# Altium schematic symbol library Modulo-1B-TY.SchLib: 37 symbols (part 1 of 2)
Pins are listed as number, name and electrical type; pins without a type are passive.

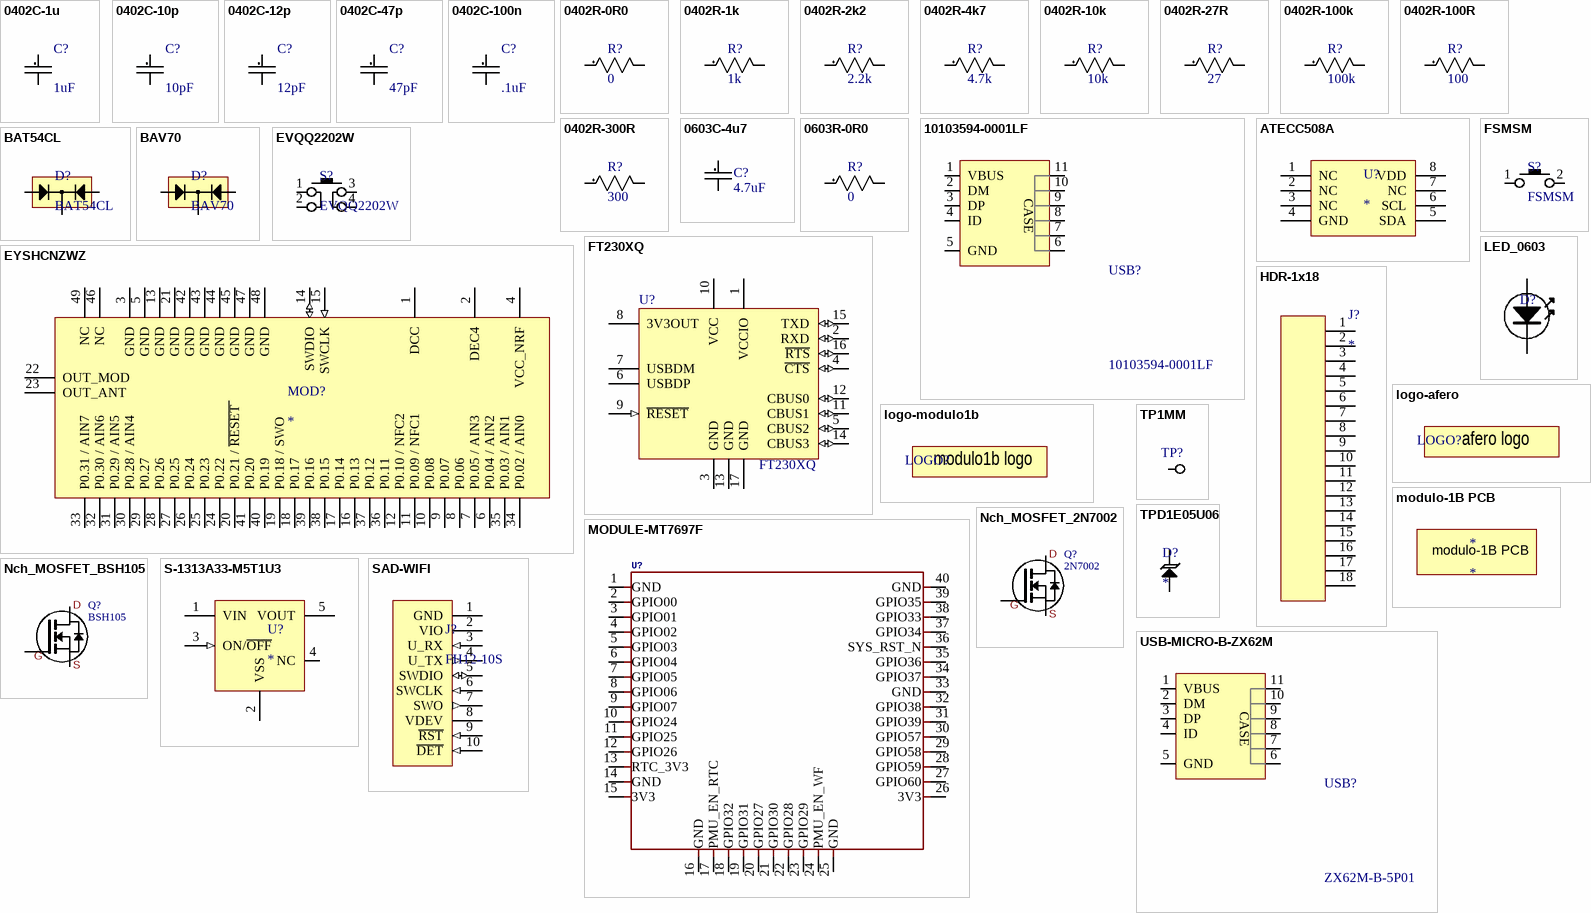
[diagram p0: symbols 0402C-1u to USB-MICRO-B-ZX62M]

## 0402C-1u
designator C?, comment 1uF
Capacitor, MLCC; Manufacturer: Murata Electronics; Manufacturer Part Number: GRM155R60J105ME19J; Tolerance: 20 %; Type: Chip Monolithic Ceramic Capacitor; Voltage Rating DC: 6.3 VDC; Capacitance - nF: 1000 nF; Dielectric: X5R; Value: 1u; item_number: E-CAP-00020-00; Supplier 1: Mouser; RoHS: RoHS Compliant; Category: Multilayer Ceramic Capacitors MLCC - SMD/SMT; Stock 1: 17644; Pricing 1: 1=0.100, 10=0.080, 100=0.040, 500=0.030, 1000=0.020, 50000=0.020 (USD); Capacitance: 1uF; Height: 0.5 mm; Length: 1 mm; Package / Case: 0402 (1005 metric); Packaging: Cut Tape; Product: General Type MLCCs; Series: GRM; Termination Style: SMD/SMT; Width: 0.5 mm; Brand: Murata Electronics; Case Code - in: 0402; Case Code - mm: 1005; Maximum Operating Temperature: + 85 C; Minimum Operating Temperature: - 55 C; Standard Pack Qty: 50000; RoHS - Mouser: Y; Minimum Order Quantity: 1; Reeling: True; ComponentLink1URL: http://www.mouser.com/ds/2/281/c02e-2905.pdf; ComponentLink1Description: http://www.mouser.com/ds/2/281/c02e-2905.pdf; Supplier Part Number 1: 81-GRM155R60J105ME9J
footprint 0402C-GENERIC
pins: 1, 2

## 0402C-10p
designator C?, comment 10pF
Capacitor, C0G; Manufacturer: Murata; Manufacturer Part Number: GRM1555C1H100FA01D; Tolerance: 1%; Voltage Rating: 50V; item_number: E-CAP-00028-00; Supplier 1: Digi-Key; Supplier Part Number 1: 490-6186-1-ND; Stock 1: 100000; Pricing 1: 1=0.1, 10=0.057, 100=0.0254, 500=0.0181, 1000=0.0142, 2500=0.0129, 5000=0.0119 (USD); Mount: Surface Mount; Case/Package: 0402; Case Code (Metric): 1005; Case Code (Imperial): 0402; Min Operating Temperature: -55°C; Max Operating Temperature: 125°C; Capacitance: 10pF; Voltage Rating (DC): 50V; Packaging: Tape and Reel; Package Quantity: 10000; Dielectric: C0G; Termination: SMD/SMT; Length: 1mm; Height: 0.5mm; Width: 0.02inch; Thickness: 0.022inch; Depth: 0.5mm; Radiation Hardening: No; REACH SVHC: No SVHC; Lead Free: Lead Free
footprint 0402C-GENERIC
pins: 1, 2

## 0402C-12p
designator C?, comment 12pF
Capacitor, C0G; Manufacturer: Murata; Manufacturer Part Number: GJM1555C1H120FB01D; Tolerance: 1%; Voltage Rating: 50V; item_number: E-CAP-00106-00; Mount: Surface Mount; Case/Package: 0402; Case Code (Metric): 1005; Case Code (Imperial): 0402; Min Operating Temperature: -55°C; Max Operating Temperature: 125°C; Capacitance: 12pF; Voltage Rating (DC): 50V; Packaging: Tape and Reel; Package Quantity: 10000; Dielectric: C0G; Termination: SMD/SMT; Length: 1mm; Height: 0.5mm; Width: 0.02inch; Thickness: 0.022inch; Depth: 0.5mm; Radiation Hardening: No; REACH SVHC: No SVHC; Lead Free: Lead Free; Supplier 1: Digi-Key; Supplier Part Number 1: 490-11190-1-ND
footprint 0402C-GENERIC
pins: 1, 2

## 0402C-47p
designator C?, comment 47pF
Capacitor, C0G; Manufacturer: Murata; Manufacturer Part Number: GRM1555C1H470JZ01D; Dielectric Material: Ceramic; Tolerance: 5%; Voltage Rating: 50V; Temperature Coefficient: 30ppm/°C; Insulation Resistance: 10GR; item_number: E-CAP-00019-00; Supplier 1: Digi-Key; Supplier Part Number 1: 490-1287-2-ND; Stock 1: 0; Mount: Surface Mount; Case/Package: 0402; Number of Pins: 2; Case Code (Metric): 1005; Case Code (Imperial): 0402; Min Operating Temperature: -55°C; Max Operating Temperature: 125°C; Packaging: Tape and Reel; Capacitance: 47pF; Dielectric: C0G; Voltage Rating (DC): 50V; Package Quantity: 1; Termination: SMD/SMT; Voltage: 50V; Length: 1mm; Height: 0.5mm; Width: 0.5mm; Depth: 0.5mm; Thickness: 0.022inch; Radiation Hardening: No; REACH SVHC: No SVHC; Lead Free: Lead Free; ComponentLink1URL: https://datasheet.ciiva.com/129/product-129747.pdf; ComponentLink1Description: https://datasheet.ciiva.com/129/product-129747.pdf; ComponentLink2URL: https://datasheet.ciiva.com/11787/0900766b807a1cab-11787251.pdf; ComponentLink2Description: https://datasheet.ciiva.com/11787/0900766b807a1cab-11787251.pdf; ComponentLink3URL: https://datasheet.ciiva.com/129/partnumbering-e-01-129748.pdf; ComponentLink3Description: https://datasheet.ciiva.com/129/partnumbering-e-01-129748.pdf; ComponentLink4URL: https://datasheet.ciiva.com/129/partnumbering-e-01-129749.pdf; ComponentLink4Description: https://datasheet.ciiva.com/129/partnumbering-e-01-129749.pdf; ComponentLink5URL: https://datasheet.ciiva.com/16396/l0005e-16396809.pdf; ComponentLink5Description: https://datasheet.ciiva.com/16396/l0005e-16396809.pdf; ComponentLink6URL: https://datasheet.ciiva.com/18100/getdatasheetpartid-32342-18100875.pdf; ComponentLink6Description: https://datasheet.ciiva.com/18100/getdatasheetpartid-32342-18100875.pdf
footprint 0402C-GENERIC
pins: 1, 2

## 0402C-100n
designator C?, comment .1uF
Capacitor, MLCC; Manufacturer: Murata; Manufacturer Part Number: GRM155R61H104KE19D; Tolerance: 10%; Voltage Rating: 50V; Dielectric: X5R; item_number: E-CAP-00004-00; Supplier 1: Mouser; Stock 1: 727844; Pricing 1: 1=0.1, 10=0.068, 50=0.068, 100=0.03, 1000=0.017, 10000=0.011 (USD); Mount: Surface Mount; Case/Package: 0402; Case Code (Metric): 1005; Case Code (Imperial): 0402; Min Operating Temperature: -55°C; Max Operating Temperature: 85°C; Packaging: Tape and Reel; Capacitance: .1uF; Voltage: 50V; Voltage Rating (DC): 50V; Length: 1mm; Height: 0.5mm; Width: 0.02inch; Thickness: 0.022inch; Depth: 0.5mm; REACH SVHC: No SVHC; Lead Free: Lead Free; ComponentLink1URL: https://datasheet.ciiva.com/22698/1666664-22698413.pdf; ComponentLink1Description: https://datasheet.ciiva.com/22698/1666664-22698413.pdf; ComponentLink2URL: https://datasheet.ciiva.com/7719/1666664-7719007.pdf; ComponentLink2Description: https://datasheet.ciiva.com/7719/1666664-7719007.pdf; Supplier Part Number 1: 81-GRM155R61H104KE9D
footprint 0402C-GENERIC
pins: 1, 2

## 0402R-0R0
designator R?, comment 0
Resistor 0R; Manufacturer: Yageo; Manufacturer Part Number: RC0402FR-070RL; Resistance: 0mR; Tolerance: 1%; Power Rating: 62.5mW; Voltage Rating: 50V; Temperature Coefficient: 200ppm/°C; Supplier 1: Mouser; Supplier Part Number 1: 603-RC0402FR-070RL; Stock 1: 240535; Pricing 1: 1=0.1, 10=0.01, 50=0.01, 100=0.003, 1000=0.002, 10000=0.002 (USD); Case/Package: 0402; Contact Plating: Tin,Matte; Case Code (Imperial): 0402; Case Code (Metric): 1005; Min Operating Temperature: -55°C; Max Operating Temperature: 155°C; Composition: Thick Film; Packaging: Tape and Reel; Termination: SMD/SMT; Length: 1mm; Height: 0.35mm; Width: 0.5mm; Radiation Hardening: No; Lead Free: Lead Free; ComponentLink1URL: https://datasheet.ciiva.com/8896/pyu-rc0402-51-rohs-l-6-8896149.pdf; ComponentLink1Description: https://datasheet.ciiva.com/8896/pyu-rc0402-51-rohs-l-6-8896149.pdf; ComponentLink2URL: https://datasheet.ciiva.com/16790/pyu-rc0402-51-rohs-l-6-r-16790444.pdf; ComponentLink2Description: https://datasheet.ciiva.com/16790/pyu-rc0402-51-rohs-l-6-r-16790444.pdf; ComponentLink3URL: https://datasheet.ciiva.com/28419/pyu-rc0402-51-rohs-l-6-28419661.pdf; ComponentLink3Description: https://datasheet.ciiva.com/28419/pyu-rc0402-51-rohs-l-6-28419661.pdf; ComponentLink4URL: https://datasheet.ciiva.com/16869/pyu-rc0402-51-rohs-l-6-16869518.pdf; ComponentLink4Description: https://datasheet.ciiva.com/16869/pyu-rc0402-51-rohs-l-6-16869518.pdf; Value: 0; item_number: =item_name
footprint 0402R-GENERIC (Chip Resistor, 2-Leads, Body 1.00x0.50mm, IPC Medium Density)
pins: 1, 2

## 0402R-1k
designator R?, comment 1k
Resistor 1k; Manufacturer: Yageo; Manufacturer Part Number: RT0402-FRE071KL; Tolerance: 1%; Temperature Coefficient: 50ppm/°C; Power Rating: 62.5mW; Voltage Rating: 50V; Max Power Dissipation: 63mW; item_number: E-RES-00002-00; Supplier 1: Digi-Key; Supplier Part Number 1: YAG1234CT-ND; Stock 1: 16655; Pricing 1: 1=0.1, 10=0.076, 100=0.029, 1000=0.0128, 2500=0.011, 5000=0.0099 (USD); Case/Package: 0402; Case Code (Metric): 1005; Case Code (Imperial): 0402; Contact Plating: Tin,Lead,Matte; Min Operating Temperature: -55°C; Max Operating Temperature: 125°C; Packaging: Tape and Reel; Resistance: 1k; Composition: Thin Film; Termination: SMD/SMT; Number of Terminations: 2; Package Quantity: 10000; Military Standard: Not; Voltage Rating (DC): 50V; Length: 1mm; Height: 0.014inch; Width: 0.02inch; Depth: 0.5mm; Radiation Hardening: No; Lead Free: Lead Free; ComponentLink1URL: https://datasheet.ciiva.com/12834/pyu-rt-1-to-0-05-rohs-l-4-12834181.pdf; ComponentLink1Description: https://datasheet.ciiva.com/12834/pyu-rt-1-to-0-05-rohs-l-4-12834181.pdf; ComponentLink2URL: https://datasheet.ciiva.com/25647/pyu-rt-1-to-0-05-rohs-l-4-25647306.pdf; ComponentLink2Description: https://datasheet.ciiva.com/25647/pyu-rt-1-to-0-05-rohs-l-4-25647306.pdf; ComponentLink3URL: https://datasheet.ciiva.com/8896/pyu-rt-1-to-0-05-rohs-l-4-8896188.pdf; ComponentLink3Description: https://datasheet.ciiva.com/8896/pyu-rt-1-to-0-05-rohs-l-4-8896188.pdf
footprint 0402R-GENERIC (Chip Resistor, 2-Leads, Body 1.00x0.50mm, IPC Medium Density)
pins: 1, 2

## 0402R-2k2
designator R?, comment 2.2k
Resistor 2k2; Manufacturer: Panasonic; Manufacturer Part Number: ERJ-2GEJ222X; Power Rating: 100mW; Tolerance: 5%; Voltage Rating: 50V; Temperature Coefficient: 200ppm/°C; Supplier 1: Digi-Key; Supplier Part Number 1: P2.2KJCT-ND; Stock 1: 1077448; Pricing 1: 1=0.1, 10=0.038, 100=0.0154, 1000=0.0069, 2500=0.006, 5000=0.005 (USD); Mount: Surface Mount; Case/Package: 0402; Weight: 2.8E-05oz; Case Code (Metric): 1005; Case Code (Imperial): 0402; Contact Plating: Tin; Min Operating Temperature: -55°C; Max Operating Temperature: 155°C; Packaging: Tape and Reel; Resistance: 2.2k; Composition: Thick Film; Military Standard: Not; Package Quantity: 1; Number of Terminations: 2; Termination: SMD/SMT; Max Power Dissipation: 100mW; Voltage Rating (DC): 50V; Features: Automotive AEC-Q200; Length: 1mm; Height: 0.35mm; Width: 0.02inch; Depth: 0.5mm; Radiation Hardening: No; REACH SVHC: No SVHC; Lead Free: Lead Free; ComponentLink1URL: https://datasheet.ciiva.com/16371/aoa0000ce1-16371493.pdf; ComponentLink1Description: https://datasheet.ciiva.com/16371/aoa0000ce1-16371493.pdf; ComponentLink2URL: https://datasheet.ciiva.com/9197/aoa0000ce1-9197303.pdf; ComponentLink2Description: https://datasheet.ciiva.com/9197/aoa0000ce1-9197303.pdf; ComponentLink3URL: https://datasheet.ciiva.com/11821/0900766b80f806dd-11821272.pdf; ComponentLink3Description: https://datasheet.ciiva.com/11821/0900766b80f806dd-11821272.pdf; ComponentLink4URL: https://datasheet.ciiva.com/28584/1678796-28584088.pdf; ComponentLink4Description: https://datasheet.ciiva.com/28584/1678796-28584088.pdf; ComponentLink5URL: https://datasheet.ciiva.com/17214/aoa0000ce1-17214249.pdf; ComponentLink5Description: https://datasheet.ciiva.com/17214/aoa0000ce1-17214249.pdf; ComponentLink6URL: https://datasheet.ciiva.com/22758/1500035-22758201.pdf; ComponentLink6Description: https://datasheet.ciiva.com/22758/1500035-22758201.pdf; ComponentLink7URL: https://datasheet.ciiva.com/30087/4aoa0000ce1-30087966.pdf; ComponentLink7Description: https://datasheet.ciiva.com/30087/4aoa0000ce1-30087966.pdf; ComponentLink8URL: https://datasheet.ciiva.com/46389/1500035-46389646.pdf; ComponentLink8Description: https://datasheet.ciiva.com/46389/1500035-46389646.pdf; ComponentLink9URL: https://datasheet.ciiva.com/43460/1500035-43460383.pdf; ComponentLink9Description: https://datasheet.ciiva.com/43460/1500035-43460383.pdf; ComponentLink10URL: https://datasheet.ciiva.com/46380/1500035-46380415.pdf; ComponentLink10Description: https://datasheet.ciiva.com/46380/1500035-46380415.pdf; item_number: =item_name
footprint 0402R-GENERIC (Chip Resistor, 2-Leads, Body 1.00x0.50mm, IPC Medium Density)
pins: 1, 2

## 0402R-4k7
designator R?, comment 4.7k
Resistor 4k7; Manufacturer: Panasonic; Manufacturer Part Number: ERJ-2GEJ472X; Tolerance: 5%; Voltage Rating: 50V; Temperature Coefficient: 200ppm/°C; Power Rating: 100mW; item_number: E-RES-00039-00; Supplier 1: Digi-Key; Supplier Part Number 1: P4.7KJCT-ND; Stock 1: 10404054; Pricing 1: 1=0.1, 10=0.038, 100=0.0154, 1000=0.0069, 2500=0.006, 5000=0.005 (USD); Mount: Surface Mount; Case/Package: 0402; Case Code (Imperial): 0402; Case Code (Metric): 1005; Contact Plating: Tin; Min Operating Temperature: -55°C; Max Operating Temperature: 155°C; Resistance: 4.7k; Packaging: Cut Tape; Termination: SMD/SMT; Military Standard: Not; Package Quantity: 1; Composition: Thick Film; Number of Terminations: 2; Max Power Dissipation: 100mW; Voltage Rating (DC): 50V; Features: Automotive AEC-Q200; Length: 1mm; Height: 0.35mm; Width: 0.5mm; Depth: 0.5mm; Radiation Hardening: No; REACH SVHC: No SVHC; Lead Free: Lead Free; ComponentLink1URL: https://datasheet.ciiva.com/11821/0900766b80f806dd-11821328.pdf; ComponentLink1Description: https://datasheet.ciiva.com/11821/0900766b80f806dd-11821328.pdf; ComponentLink2URL: https://datasheet.ciiva.com/16758/70260739-16758341.pdf; ComponentLink2Description: https://datasheet.ciiva.com/16758/70260739-16758341.pdf; ComponentLink3URL: https://datasheet.ciiva.com/16770/70260739-16770309.pdf; ComponentLink3Description: https://datasheet.ciiva.com/16770/70260739-16770309.pdf; ComponentLink4URL: https://datasheet.ciiva.com/28514/1678796-28514168.pdf; ComponentLink4Description: https://datasheet.ciiva.com/28514/1678796-28514168.pdf; ComponentLink5URL: https://datasheet.ciiva.com/17213/aoa0000ce1-17213178.pdf; ComponentLink5Description: https://datasheet.ciiva.com/17213/aoa0000ce1-17213178.pdf; ComponentLink6URL: https://datasheet.ciiva.com/16523/aoa0000ce1-16523499.pdf; ComponentLink6Description: https://datasheet.ciiva.com/16523/aoa0000ce1-16523499.pdf; ComponentLink7URL: https://datasheet.ciiva.com/46377/1678796-46377565.pdf; ComponentLink7Description: https://datasheet.ciiva.com/46377/1678796-46377565.pdf
footprint 0402R-GENERIC (Chip Resistor, 2-Leads, Body 1.00x0.50mm, IPC Medium Density)
pins: 1, 2

## 0402R-10k
designator R?, comment 10k
Resistor 10k; Manufacturer: Vishay Dale; Manufacturer Part Number: CRCW040210K0JNED; Tolerance: 5%; Power Rating: 63mW; Voltage Rating: 50V; Temperature Coefficient: 200ppm/°C; item_number: E-RES-00001-00; Supplier 1: Digi-Key; Supplier Part Number 1: 541-10KJCT-ND; Stock 1: 0; Pricing 1: 1=0.1, 10=0.031, 100=0.0125, 1000=0.0056, 2500=0.0049, 5000=0.004 (USD); Mount: Surface Mount; Case/Package: 0402; Weight: 2.3E-05oz; Case Code (Imperial): 0402; Case Code (Metric): 1005; Contact Plating: Tin; Min Operating Temperature: -55°C; Max Operating Temperature: 155°C; Resistance: 10k; Packaging: Tape and Reel; Termination: SMD/SMT; Package Quantity: 1; Composition: Thick Film; Military Standard: Not; Number of Terminations: 2; Max Power Dissipation: 63mW; Features: Automotive AEC-Q200; Length: 1mm; Height: 0.016inch; Depth: 0.5mm; Width: 0.5mm; Radiation Hardening: No; REACH SVHC: Unknown; ComponentLink1URL: https://datasheet.ciiva.com/2461/dcrcwe3-2461974.pdf; ComponentLink1Description: https://datasheet.ciiva.com/2461/dcrcwe3-2461974.pdf; ComponentLink2URL: https://datasheet.ciiva.com/2461/dcrcwe3-2461975.pdf; ComponentLink2Description: https://datasheet.ciiva.com/2461/dcrcwe3-2461975.pdf; ComponentLink3URL: https://datasheet.ciiva.com/2461/dcrcwe3-2461976.pdf; ComponentLink3Description: https://datasheet.ciiva.com/2461/dcrcwe3-2461976.pdf; ComponentLink4URL: https://datasheet.ciiva.com/7743/dcrcwe3-7743416.pdf; ComponentLink4Description: https://datasheet.ciiva.com/7743/dcrcwe3-7743416.pdf; ComponentLink5URL: https://datasheet.ciiva.com/16771/70201119-16771096.pdf; ComponentLink5Description: https://datasheet.ciiva.com/16771/70201119-16771096.pdf; ComponentLink6URL: https://datasheet.ciiva.com/7743/dcrcwe3-7743417.pdf; ComponentLink6Description: https://datasheet.ciiva.com/7743/dcrcwe3-7743417.pdf; ComponentLink7URL: https://datasheet.ciiva.com/16761/70201119-16761947.pdf; ComponentLink7Description: https://datasheet.ciiva.com/16761/70201119-16761947.pdf; ComponentLink8URL: https://datasheet.ciiva.com/3255/dcrcwe3-3255964.pdf; ComponentLink8Description: https://datasheet.ciiva.com/3255/dcrcwe3-3255964.pdf; ComponentLink9URL: https://datasheet.ciiva.com/3255/dcrcwe3-3255965.pdf; ComponentLink9Description: https://datasheet.ciiva.com/3255/dcrcwe3-3255965.pdf
footprint 0402R-GENERIC (Chip Resistor, 2-Leads, Body 1.00x0.50mm, IPC Medium Density)
pins: 1, 2

## 0402R-27R
designator R?, comment 27
Resistor 27R; Manufacturer: Vishay; Manufacturer Part Number: CRCW040227R0FKED; Power Rating: 63mW; Tolerance: 1%; Voltage Rating: 50V; Temperature Coefficient: 100ppm/°C; item_number: E-RES-00007-00; Supplier 1: Digi-Key; Supplier Part Number 1: 541-27.0LCT-ND; Stock 1: 23435; Pricing 1: 1=0.1, 10=0.044, 100=0.0178, 1000=0.008, 2500=0.007, 5000=0.0058 (USD); Case/Package: 0402; Number of Pins: 2; Weight: 2.3E-05oz; Case Code (Metric): 1005; Case Code (Imperial): 0402; Contact Plating: Tin; Min Operating Temperature: -55°C; Max Operating Temperature: 155°C; Resistance: 27; Packaging: Tape and Reel; Composition: Thick Film; Voltage Rating (DC): 50V; Termination: SMD/SMT; Package Quantity: 10; Number of Terminations: 2; Military Standard: Not; Max Power Dissipation: 63mW; Length: 1mm; Height: 0.35mm; Width: 0.02inch; Depth: 0.5mm; Radiation Hardening: No; REACH SVHC: Unknown; Lead Free: Lead Free; ComponentLink1URL: https://datasheet.ciiva.com/3883/41394838s8306212n6892-3883398.pdf; ComponentLink1Description: https://datasheet.ciiva.com/3883/41394838s8306212n6892-3883398.pdf; ComponentLink2URL: https://datasheet.ciiva.com/2463/dcrcwe3-2463072.pdf; ComponentLink2Description: https://datasheet.ciiva.com/2463/dcrcwe3-2463072.pdf; ComponentLink3URL: https://datasheet.ciiva.com/11811/0900766b80d98824-11811652.pdf; ComponentLink3Description: https://datasheet.ciiva.com/11811/0900766b80d98824-11811652.pdf; ComponentLink4URL: https://datasheet.ciiva.com/16886/dcrcwe3-16886856.pdf; ComponentLink4Description: https://datasheet.ciiva.com/16886/dcrcwe3-16886856.pdf; ComponentLink5URL: https://datasheet.ciiva.com/7672/1697337-7672793.pdf; ComponentLink5Description: https://datasheet.ciiva.com/7672/1697337-7672793.pdf; ComponentLink6URL: https://datasheet.ciiva.com/8336/dcrcwe3-8336681.pdf; ComponentLink6Description: https://datasheet.ciiva.com/8336/dcrcwe3-8336681.pdf; ComponentLink7URL: https://datasheet.ciiva.com/7672/1697337-7672794.pdf; ComponentLink7Description: https://datasheet.ciiva.com/7672/1697337-7672794.pdf; ComponentLink8URL: https://datasheet.ciiva.com/22675/1912744-22675082.pdf; ComponentLink8Description: https://datasheet.ciiva.com/22675/1912744-22675082.pdf; ComponentLink9URL: https://datasheet.ciiva.com/16373/dcrcwe3-16373179.pdf; ComponentLink9Description: https://datasheet.ciiva.com/16373/dcrcwe3-16373179.pdf; ComponentLink10URL: https://datasheet.ciiva.com/26316/fld-crcw-e3-data-en-26316667.pdf; ComponentLink10Description: https://datasheet.ciiva.com/26316/fld-crcw-e3-data-en-26316667.pdf; ComponentLink11URL: https://datasheet.ciiva.com/22870/70201119-22870060.pdf; ComponentLink11Description: https://datasheet.ciiva.com/22870/70201119-22870060.pdf; ComponentLink12URL: https://datasheet.ciiva.com/5548/dcrcwe3-109170-5548813.pdf; ComponentLink12Description: https://datasheet.ciiva.com/5548/dcrcwe3-109170-5548813.pdf; ComponentLink13URL: https://datasheet.ciiva.com/2463/dcrcwe3-2463070.pdf; ComponentLink13Description: https://datasheet.ciiva.com/2463/dcrcwe3-2463070.pdf; ComponentLink14URL: https://datasheet.ciiva.com/22704/1697337-22704430.pdf; ComponentLink14Description: https://datasheet.ciiva.com/22704/1697337-22704430.pdf; ComponentLink15URL: https://datasheet.ciiva.com/2463/dcrcwe3-2463071.pdf; ComponentLink15Description: https://datasheet.ciiva.com/2463/dcrcwe3-2463071.pdf
footprint 0402R-GENERIC (Chip Resistor, 2-Leads, Body 1.00x0.50mm, IPC Medium Density)
pins: 1, 2

## 0402R-100k
designator R?, comment 100k
Resistor 100k; Manufacturer: Panasonic; Manufacturer Part Number: ERJ-2GEJ104X; Power Rating: 100mW; Tolerance: 5%; Voltage Rating: 50V; Temperature Coefficient: 200ppm/°C; item_number: E-RES-00012-00; Supplier 1: Digi-Key; Supplier Part Number 1: P100KJCT-ND; Stock 1: 10583442; Pricing 1: 1=0.1, 10=0.038, 100=0.0154, 1000=0.0069, 2500=0.006, 5000=0.005 (USD); Mount: Surface Mount; Case/Package: 0402; Case Code (Metric): 1005; Case Code (Imperial): 0402; Contact Plating: Tin; Min Operating Temperature: -55°C; Max Operating Temperature: 155°C; Resistance: 100k; Packaging: Tape and Reel; Termination: SMD/SMT; Package Quantity: 1; Composition: Thick Film; Max Power Dissipation: 100mW; Number of Terminations: 2; Military Standard: Not; Voltage Rating (DC): 50V; Features: Automotive AEC-Q200; Length: 1mm; Height: 0.35mm; Depth: 0.5mm; Width: 0.02inch; Radiation Hardening: No; REACH SVHC: No SVHC; Lead Free: Lead Free; ComponentLink1URL: https://datasheet.ciiva.com/11821/0900766b80f806dd-11821174.pdf; ComponentLink1Description: https://datasheet.ciiva.com/11821/0900766b80f806dd-11821174.pdf; ComponentLink2URL: https://datasheet.ciiva.com/22758/1500035-22758198.pdf; ComponentLink2Description: https://datasheet.ciiva.com/22758/1500035-22758198.pdf; ComponentLink3URL: https://datasheet.ciiva.com/34303/1986799-34303543.pdf; ComponentLink3Description: https://datasheet.ciiva.com/34303/1986799-34303543.pdf; ComponentLink4URL: https://datasheet.ciiva.com/24023/aoa0000ce1-37422-24023480.pdf; ComponentLink4Description: https://datasheet.ciiva.com/24023/aoa0000ce1-37422-24023480.pdf; ComponentLink5URL: https://datasheet.ciiva.com/16777/70260739-16777321.pdf; ComponentLink5Description: https://datasheet.ciiva.com/16777/70260739-16777321.pdf; ComponentLink6URL: https://datasheet.ciiva.com/16759/70260739-16759692.pdf; ComponentLink6Description: https://datasheet.ciiva.com/16759/70260739-16759692.pdf; ComponentLink7URL: https://datasheet.ciiva.com/48531/aoa0000ce1-48531084.pdf; ComponentLink7Description: https://datasheet.ciiva.com/48531/aoa0000ce1-48531084.pdf; ComponentLink8URL: https://datasheet.ciiva.com/9186/aoa0000ce1-9186685.pdf; ComponentLink8Description: https://datasheet.ciiva.com/9186/aoa0000ce1-9186685.pdf; ComponentLink9URL: https://datasheet.ciiva.com/30204/4aoa0000ce1-30204557.pdf; ComponentLink9Description: https://datasheet.ciiva.com/30204/4aoa0000ce1-30204557.pdf; ComponentLink10URL: https://datasheet.ciiva.com/46389/1500035-46389645.pdf; ComponentLink10Description: https://datasheet.ciiva.com/46389/1500035-46389645.pdf
footprint 0402R-GENERIC (Chip Resistor, 2-Leads, Body 1.00x0.50mm, IPC Medium Density)
pins: 1, 2

## 0402R-100R
designator R?, comment 100
Resistor 100R; Manufacturer: Vishay Dale; Manufacturer Part Number: CRCW0402100RFKED; Tolerance: 1%; Temperature Coefficient: 100ppm/°C; Voltage Rating (DC): 50V; Power Rating: 63mW; item_number: E-RES-00008-00; Supplier 1: Digi-Key; Supplier Part Number 1: 541-100LCT-ND; Stock 1: 0; Pricing 1: 1=0.1, 10=0.044, 100=0.0178, 1000=0.008, 2500=0.007, 5000=0.0058 (USD); Mount: Surface Mount; Case/Package: 0402; Weight: 2.3E-05oz; Case Code (Metric): 1005; Case Code (Imperial): 0402; Contact Plating: Tin; Min Operating Temperature: -55°C; Max Operating Temperature: 155°C; Resistance: 100; Packaging: Tape and Reel; Voltage Rating: 50V; Termination: SMD/SMT; Package Quantity: 10; Composition: Thick Film; Number of Terminations: 2; Military Standard: Not; Max Power Dissipation: 63mW; Features: Automotive AEC-Q200; Working Voltage: 50V; Length: 1mm; Height: 0.35mm; Width: 0.02inch; Depth: 0.5mm; Radiation Hardening: No; REACH SVHC: Unknown; Lead Free: Lead Free; ComponentLink1URL: https://datasheet.ciiva.com/2463/dcrcwe3-2463094.pdf; ComponentLink1Description: https://datasheet.ciiva.com/2463/dcrcwe3-2463094.pdf; ComponentLink2URL: https://datasheet.ciiva.com/16199/dcrcwe3-16199158.pdf; ComponentLink2Description: https://datasheet.ciiva.com/16199/dcrcwe3-16199158.pdf; ComponentLink3URL: https://datasheet.ciiva.com/2463/dcrcwe3-2463095.pdf; ComponentLink3Description: https://datasheet.ciiva.com/2463/dcrcwe3-2463095.pdf; ComponentLink4URL: https://datasheet.ciiva.com/2463/dcrcwe3-2463096.pdf; ComponentLink4Description: https://datasheet.ciiva.com/2463/dcrcwe3-2463096.pdf; ComponentLink5URL: https://datasheet.ciiva.com/5552/dcrcwe3-109170-5552168.pdf; ComponentLink5Description: https://datasheet.ciiva.com/5552/dcrcwe3-109170-5552168.pdf; ComponentLink6URL: https://datasheet.ciiva.com/8083/dcrcwe3-8083977.pdf; ComponentLink6Description: https://datasheet.ciiva.com/8083/dcrcwe3-8083977.pdf; ComponentLink7URL: https://datasheet.ciiva.com/11809/0900766b80d98824-11809081.pdf; ComponentLink7Description: https://datasheet.ciiva.com/11809/0900766b80d98824-11809081.pdf; ComponentLink8URL: https://datasheet.ciiva.com/16722/70201119-16722524.pdf; ComponentLink8Description: https://datasheet.ciiva.com/16722/70201119-16722524.pdf; ComponentLink9URL: https://datasheet.ciiva.com/22673/1697337-22673117.pdf; ComponentLink9Description: https://datasheet.ciiva.com/22673/1697337-22673117.pdf; ComponentLink10URL: https://datasheet.ciiva.com/22673/1697337-22673118.pdf; ComponentLink10Description: https://datasheet.ciiva.com/22673/1697337-22673118.pdf; ComponentLink11URL: https://datasheet.ciiva.com/3255/dcrcwe3-3255951.pdf; ComponentLink11Description: https://datasheet.ciiva.com/3255/dcrcwe3-3255951.pdf
footprint 0402R-GENERIC (Chip Resistor, 2-Leads, Body 1.00x0.50mm, IPC Medium Density)
pins: 1, 2

## 0402R-300R
designator R?, comment 300
Resistor 300R; Manufacturer: Panasonic; Manufacturer Part Number: ERJ-2GEJ301X; Tolerance: 5%; Power Rating: 100mW; Voltage Rating: 50V; Temperature Coefficient: 200ppm/°C; item_number: E-RES-00003-00; Supplier 1: Digi-Key; Supplier Part Number 1: P300JCT-ND; Stock 1: 471481; Pricing 1: 1=0.1, 10=0.038, 100=0.0154, 1000=0.0069, 2500=0.006, 5000=0.005 (USD); Mount: Surface Mount; Case/Package: 0402; Case Code (Metric): 1005; Case Code (Imperial): 0402; Contact Plating: Tin; Min Operating Temperature: -55°C; Max Operating Temperature: 155°C; Resistance: 300; Packaging: Tape and Reel; Composition: Thick Film; Voltage Rating (DC): 50V; Number of Terminations: 2; Termination: SMD/SMT; Package Quantity: 1; Military Standard: Not; Max Power Dissipation: 100mW; Features: Automotive AEC-Q200; Length: 1mm; Height: 0.35mm; Width: 0.02inch; Depth: 0.5mm; REACH SVHC: No SVHC; Lead Free: Lead Free; ComponentLink1URL: https://datasheet.ciiva.com/28676/1678796-28676629.pdf; ComponentLink1Description: https://datasheet.ciiva.com/28676/1678796-28676629.pdf; ComponentLink2URL: https://datasheet.ciiva.com/46374/1500035-46374245.pdf; ComponentLink2Description: https://datasheet.ciiva.com/46374/1500035-46374245.pdf; ComponentLink3URL: https://datasheet.ciiva.com/5875/1500035-5875638.pdf; ComponentLink3Description: https://datasheet.ciiva.com/5875/1500035-5875638.pdf; ComponentLink4URL: https://datasheet.ciiva.com/46387/1500035-46387271.pdf; ComponentLink4Description: https://datasheet.ciiva.com/46387/1500035-46387271.pdf; ComponentLink5URL: https://datasheet.ciiva.com/16780/70260739-16780425.pdf; ComponentLink5Description: https://datasheet.ciiva.com/16780/70260739-16780425.pdf; ComponentLink6URL: https://datasheet.ciiva.com/28565/1678796-28565003.pdf; ComponentLink6Description: https://datasheet.ciiva.com/28565/1678796-28565003.pdf; ComponentLink7URL: https://datasheet.ciiva.com/11821/0900766b80f806dd-11821262.pdf; ComponentLink7Description: https://datasheet.ciiva.com/11821/0900766b80f806dd-11821262.pdf; ComponentLink8URL: https://datasheet.ciiva.com/16770/70260739-16770846.pdf; ComponentLink8Description: https://datasheet.ciiva.com/16770/70260739-16770846.pdf; ComponentLink9URL: https://datasheet.ciiva.com/30116/4aoa0000ce1-30116655.pdf; ComponentLink9Description: https://datasheet.ciiva.com/30116/4aoa0000ce1-30116655.pdf
footprint 0402R-GENERIC (Chip Resistor, 2-Leads, Body 1.00x0.50mm, IPC Medium Density)
pins: 1, 2

## 0603C-4u7
designator C?, comment 4.7uF
Capacitor; Manufacturer: Murata; Manufacturer Part Number: GRM188R61C475KAAJD; Value: 4u7; Material: Ceramic; Tolerance: 10%; Dielectric: X5R; Voltage Rating: 16V; item_number: E-CAP-00066-00; Supplier 1: Mouser; Stock 1: 241267; Pricing 1: 1=0.27, 10=0.184, 50=0.184, 100=0.105, 1000=0.065, 10000=0.054 (USD); Mount: Surface Mount; Case/Package: 0603; Weight: 0.000222oz; Case Code (Metric): 1608; Case Code (Imperial): 0603; Min Operating Temperature: -55°C; Max Operating Temperature: 85°C; Capacitance: 4.7uF; Packaging: Tape and Reel; Termination: SMD/SMT; Voltage Rating (DC): 16V; Package Quantity: 4000; Length: 1.6mm; Height: 0.8mm; Width: 0.8mm; Thickness: 0.037inch; Depth: 0.8mm; REACH SVHC: No SVHC; Lead Free: Lead Free; ComponentLink1URL: https://datasheet.ciiva.com/14813/595grm188r61c475kaaj23-14813668.pdf; ComponentLink1Description: https://datasheet.ciiva.com/14813/595grm188r61c475kaaj23-14813668.pdf; Supplier Part Number 1: 81-GRM188R61C475KAJD
footprint 0603C-GENERIC (CAPACITOR 0603)
pins: 1, 2

## 0603R-0R0
designator R?, comment 0
Resistor 0R; Manufacturer: Panasonic; Manufacturer Part Number: ERJ-3GEY0R00V; Power Rating: 100mW; Voltage Rating: 75V; Voltage Rating (DC): 50V; Temperature Coefficient: 600ppm/°C; Tolerance: 0%; item_number: E-RES-00019-00; Supplier 1: Digi-Key; Supplier Part Number 1: P0.0GCT-ND; Stock 1: 17519314; Pricing 1: 1=0.1, 10=0.053, 25=0.038, 50=0.029, 100=0.0214, 250=0.0163, 500=0.0131, 1000=0.0096 (USD); Mount: Surface Mount; Case/Package: 0603; Case Code (Metric): 1608; Case Code (Imperial): 0603; Contact Plating: Tin; Min Operating Temperature: -55°C; Max Operating Temperature: 155°C; Packaging: Tape and Reel; Resistance: 0; Composition: Thick Film; Package Quantity: 1; Termination: SMD/SMT; Number of Terminations: 2; Military Standard: Not; Max Power Dissipation: 100mW; Features: Automotive AEC-Q200; Length: 1.6mm; Height: 0.45mm; Width: 0.031inch; Depth: 0.8mm; Radiation Hardening: No; REACH SVHC: No SVHC; Lead Free: Lead Free; ComponentLink1URL: https://datasheet.ciiva.com/48532/aoa0000ce1-48532165.pdf; ComponentLink1Description: https://datasheet.ciiva.com/48532/aoa0000ce1-48532165.pdf; ComponentLink2URL: https://datasheet.ciiva.com/43460/1678796-43460647.pdf; ComponentLink2Description: https://datasheet.ciiva.com/43460/1678796-43460647.pdf; ComponentLink3URL: https://datasheet.ciiva.com/27055/1935748-27055113.pdf; ComponentLink3Description: https://datasheet.ciiva.com/27055/1935748-27055113.pdf; ComponentLink4URL: https://datasheet.ciiva.com/28695/1678796-28695833.pdf; ComponentLink4Description: https://datasheet.ciiva.com/28695/1678796-28695833.pdf; ComponentLink5URL: https://datasheet.ciiva.com/5959/1678796-5959707.pdf; ComponentLink5Description: https://datasheet.ciiva.com/5959/1678796-5959707.pdf; ComponentLink6URL: https://datasheet.ciiva.com/16834/aoa0000ce1-16834828.pdf; ComponentLink6Description: https://datasheet.ciiva.com/16834/aoa0000ce1-16834828.pdf; ComponentLink7URL: https://datasheet.ciiva.com/17215/aoa0000ce1-17215388.pdf; ComponentLink7Description: https://datasheet.ciiva.com/17215/aoa0000ce1-17215388.pdf; ComponentLink8URL: https://datasheet.ciiva.com/46377/1678796-46377868.pdf; ComponentLink8Description: https://datasheet.ciiva.com/46377/1678796-46377868.pdf; ComponentLink9URL: https://datasheet.ciiva.com/30199/4aoa0000ce1-30199822.pdf; ComponentLink9Description: https://datasheet.ciiva.com/30199/4aoa0000ce1-30199822.pdf; ComponentLink10URL: https://datasheet.ciiva.com/9198/aoa0000ce1-9198975.pdf; ComponentLink10Description: https://datasheet.ciiva.com/9198/aoa0000ce1-9198975.pdf; ComponentLink11URL: https://datasheet.ciiva.com/11808/0900766b80f806dd-11808207.pdf; ComponentLink11Description: https://datasheet.ciiva.com/11808/0900766b80f806dd-11808207.pdf; ComponentLink12URL: https://datasheet.ciiva.com/16758/70255313-16758527.pdf; ComponentLink12Description: https://datasheet.ciiva.com/16758/70255313-16758527.pdf
footprint 0603R-generic (RESISTOR 0603)
pins: 1, 2

## 10103594-0001LF
designator USB?
MICRO USB B; Manufacturer: Amphenol FCI; Gender: Receptacle; Voltage Rating: 100V; Current Rating: 1.8A; Connector Type: USB,Receptacle; Number of Ports: 1; Insulation Resistance: 1GR; Number of Contacts: 5; USB Standard: USB 2.0; Pitch: 0.65mm; item_number: M-CON-00011-00; Supplier 1: Digi-Key; Supplier Part Number 1: 609-4050-1-ND; Manufacturer Part Number: 10103594-0001LF; Stock 1: 103885; Pricing 1: 1=0.82, 10=0.721, 25=0.6788, 50=0.6504, 100=0.6221, 250=0.5655, 500=0.509 (USD); Mount: Surface Mount,Horizontal; Contact Plating: Gold; Contact Material: Copper,Copper Alloy; Number of Terminals: 5; Housing Material: Thermoplastic; Min Operating Temperature: -55°C; Max Operating Temperature: 85°C; Termination: Solder; Orientation: Right Angle; Packaging: Tape and Reel; Package Quantity: 1500; Max Voltage Rating (AC): 100V; Features: Shielded; Length: 8.04mm; Radiation Hardening: No; REACH SVHC: No SVHC; Lead Free: Lead Free; ComponentLink1URL: https://datasheet.ciiva.com/8015/10103594-8015248.pdf; ComponentLink1Description: https://datasheet.ciiva.com/8015/10103594-8015248.pdf; ComponentLink2URL: https://datasheet.ciiva.com/11731/0900766b80ed1ae4-11731328.pdf; ComponentLink2Description: https://datasheet.ciiva.com/11731/0900766b80ed1ae4-11731328.pdf; ComponentLink3URL: https://datasheet.ciiva.com/14618/70236822-14618885.pdf; ComponentLink3Description: https://datasheet.ciiva.com/14618/70236822-14618885.pdf; ComponentLink4URL: https://datasheet.ciiva.com/22654/1469075-22654519.pdf; ComponentLink4Description: https://datasheet.ciiva.com/22654/1469075-22654519.pdf; ComponentLink5URL: https://datasheet.ciiva.com/851/10103594-851115.pdf; ComponentLink5Description: https://datasheet.ciiva.com/851/10103594-851115.pdf; ComponentLink6URL: https://datasheet.ciiva.com/5726/10103594-5726971.pdf; ComponentLink6Description: https://datasheet.ciiva.com/5726/10103594-5726971.pdf; ComponentLink7URL: https://datasheet.ciiva.com/851/10103594-851116.pdf; ComponentLink7Description: https://datasheet.ciiva.com/851/10103594-851116.pdf; ComponentLink8URL: https://datasheet.ciiva.com/851/10103594-851117.pdf; ComponentLink8Description: https://datasheet.ciiva.com/851/10103594-851117.pdf
footprint 10103594-0001LF (USB Micro B)
pins: 1 VBUS, 2 DM, 3 DP, 4 ID, 5 GND, 6 CASE, 7 CASE, 8 CASE, 9 CASE, 10 CASE, 11 CASE

## ATECC508A
designator U?
Afero Custom CryptoAuthentication Device; Manufacturer: Microchip / Atmel; Manufacturer Part Number: ATECC508A-MAHCZ-T; item_number: E-ICS-00072-00; Supplier 1: Digi-Key; Supplier Part Number 1: 1611-ATECC508A-MAHCZ-TCT-ND; Stock 1: 4638; Pricing 1: 1=0.35, 25=0.32, 100=0.29 (USD); Mount: Surface Mount; Min Operating Temperature: -40°C; Max Operating Temperature: 85°C; Packaging: Tape and Reel
footprint SON50P300X60-8N (SON, 8-Leads, Body 2.00x3.00mm, Pitch 0.50mm, IPC Medium Density)
pins: 1 NC, 2 NC, 3 NC, 4 GND (power), 5 SDA, 6 SCL, 7 NC, 8 VDD (power)

## BAT54CL
designator D?
Dual Common Cathode  Schottky  Diodes; Manufacturer: ON Semiconductor; Manufacturer Part Number: BAT54CLT1G; Forward Current: 200mA; Recovery Time: 5ns; Max Reverse Leakage Current: 2uA; Max Forward Surge Current (Ifsm): 600mA; Max Reverse Voltage (DC): 30V; Max Power Dissipation: 225mW; Capacitance: 10pF; Forward Voltage: 800mV; item_number: E-DIO-00010-00; Supplier 1: Digi-Key; Supplier Part Number 1: BAT54CLT1GOSCT-ND; Stock 1: 151531; Pricing 1: 1=0.15, 10=0.133, 100=0.0727, 500=0.0447, 1000=0.0305 (USD); Case/Package: SOT-23-3; Number of Pins: 3; Contact Plating: Tin,Matte; Min Operating Temperature: -55°C; Max Operating Temperature: 125°C; Element Configuration: Common Cathode; Packaging: Tape and Reel; Package Quantity: 3000; Average Rectified Current: 200mA; Reverse Recovery Time: 5ns; Max Surge Current: 600mA; Peak Non-Repetitive Surge Current: 600mA; Max Repetitive Reverse Voltage (Vrrm): 30V; Current Rating: 200mA; Voltage Rating (DC): 30V; Peak Reverse Current: 2uA; Power Dissipation: 225mW; Length: 3.04mm; Height: 1.01mm; Width: 1.4mm; Radiation Hardening: No; Lead Free: Lead Free; Halogen Free: Halogen Free; REACH SVHC: No SVHC; ComponentLink1URL: https://datasheet.ciiva.com/1240/bat54clt1-d-1240707.pdf; ComponentLink1Description: https://datasheet.ciiva.com/1240/bat54clt1-d-1240707.pdf; ComponentLink2URL: https://datasheet.ciiva.com/22659/1918740-22659014.pdf; ComponentLink2Description: https://datasheet.ciiva.com/22659/1918740-22659014.pdf; ComponentLink3URL: https://datasheet.ciiva.com/34301/885769-34301654.pdf; ComponentLink3Description: https://datasheet.ciiva.com/34301/885769-34301654.pdf; ComponentLink4URL: https://datasheet.ciiva.com/1180/bat54clt1-d-1180247.pdf; ComponentLink4Description: https://datasheet.ciiva.com/1180/bat54clt1-d-1180247.pdf; ComponentLink5URL: https://datasheet.ciiva.com/1180/bat54clt1-d-1180248.pdf; ComponentLink5Description: https://datasheet.ciiva.com/1180/bat54clt1-d-1180248.pdf; ComponentLink6URL: https://datasheet.ciiva.com/30479/0900766b8121b932-30479128.pdf; ComponentLink6Description: https://datasheet.ciiva.com/30479/0900766b8121b932-30479128.pdf; ComponentLink7URL: https://datasheet.ciiva.com/15144/getdatasheetpartid-98336-15144809.pdf; ComponentLink7Description: https://datasheet.ciiva.com/15144/getdatasheetpartid-98336-15144809.pdf; ComponentLink8URL: https://datasheet.ciiva.com/16205/bat54clt1-d-16205033.pdf; ComponentLink8Description: https://datasheet.ciiva.com/16205/bat54clt1-d-16205033.pdf; ComponentLink9URL: https://datasheet.ciiva.com/905/bat54clt1-d-905835.pdf; ComponentLink9Description: https://datasheet.ciiva.com/905/bat54clt1-d-905835.pdf; ComponentLink10URL: https://datasheet.ciiva.com/28655/bat54clt1-d-28655787.pdf; ComponentLink10Description: https://datasheet.ciiva.com/28655/bat54clt1-d-28655787.pdf; ComponentLink11URL: https://datasheet.ciiva.com/8299/bat54clt1-d-8299644.pdf; ComponentLink11Description: https://datasheet.ciiva.com/8299/bat54clt1-d-8299644.pdf; ComponentLink12URL: https://datasheet.ciiva.com/8294/bat54clt1-d-8294495.pdf; ComponentLink12Description: https://datasheet.ciiva.com/8294/bat54clt1-d-8294495.pdf
footprint SOT23 (SOT32)
pins: 1, 2, 3

## BAV70
designator D?
Dual Common Cathode  Switching  Diodes; Manufacturer: ON Semiconductor / Fairchild; Forward Voltage: 1.25V; Current Rating: 200mA; Voltage Rating (DC): 70V; Capacitance: 1.5pF; Reverse Recovery Time: 6ns; Peak Reverse Current: 5uA; Max Surge Current: 2A; Max Forward Surge Current (Ifsm): 4.5A; Power Dissipation: 350mW; Voltage: 75V; Supplier 1: Digi-Key; Supplier Part Number 1: BAV70FSTR-ND; Manufacturer Part Number: BAV70; Stock 1: 0; Pricing 1: 3000=0.0476, 6000=0.0414, 15000=0.0352, 30000=0.0331, 75000=0.031, 150000=0.0276 (USD); Mount: Surface Mount; Case/Package: SOT-23; Number of Pins: 3; Contact Plating: Tin,Matte; Min Operating Temperature: -55°C; Max Operating Temperature: 150°C; Packaging: Tape and Reel; Element Configuration: Common Cathode; Forward Current: 200mA; Max Repetitive Reverse Voltage (Vrrm): 70V; Max Reverse Voltage (DC): 70V; Package Quantity: 1; Recovery Time: 6ns; Peak Non-Repetitive Surge Current: 2A; Average Rectified Current: 200mA; Current: 2A; Reverse Voltage: 70V; Length: 2.92mm; Height: 0.93mm; Width: 1.3mm; Radiation Hardening: No; REACH SVHC: No SVHC; Lead Free: Lead Free; ComponentLink1URL: https://datasheet.ciiva.com/1180/238532-1180611.pdf; ComponentLink1Description: https://datasheet.ciiva.com/1180/238532-1180611.pdf; ComponentLink2URL: https://datasheet.ciiva.com/1180/238532-1180659.pdf; ComponentLink2Description: https://datasheet.ciiva.com/1180/238532-1180659.pdf; ComponentLink3URL: https://datasheet.ciiva.com/16947/bav70-16947493.pdf; ComponentLink3Description: https://datasheet.ciiva.com/16947/bav70-16947493.pdf; ComponentLink4URL: https://datasheet.ciiva.com/8303/bav70-8303671.pdf; ComponentLink4Description: https://datasheet.ciiva.com/8303/bav70-8303671.pdf; ComponentLink5URL: https://datasheet.ciiva.com/904/bav70-904344.pdf; ComponentLink5Description: https://datasheet.ciiva.com/904/bav70-904344.pdf; ComponentLink6URL: https://datasheet.ciiva.com/22633/238532-22633880.pdf; ComponentLink6Description: https://datasheet.ciiva.com/22633/238532-22633880.pdf; ComponentLink7URL: https://datasheet.ciiva.com/904/bav70-904345.pdf; ComponentLink7Description: https://datasheet.ciiva.com/904/bav70-904345.pdf; ComponentLink8URL: https://datasheet.ciiva.com/27050/784765-27050041.pdf; ComponentLink8Description: https://datasheet.ciiva.com/27050/784765-27050041.pdf; ComponentLink9URL: https://datasheet.ciiva.com/904/bav70-904346.pdf; ComponentLink9Description: https://datasheet.ciiva.com/904/bav70-904346.pdf; ComponentLink10URL: https://datasheet.ciiva.com/26232/bav70-26232013.pdf; ComponentLink10Description: https://datasheet.ciiva.com/26232/bav70-26232013.pdf; item_number: =item_name
footprint SOT23 (SOT32)
pins: 1, 2, 3

## EVQQ2202W
designator S?
SMD Tact Switch; item_number: =item_name
footprint EVQQ2202W (SMD Tact Switch)
pins: 1, 2 1, 3 2, 4 2

## EYSHCNZWZ
designator MOD?
Bluetooth 5.0 Low Energy Module; Manufacturer: Taiyo Yuden; Manufacturer Part Number: EYSHCNZWZ; item_number: E-ICS-00091-00; Supplier 1: Mouser; Supplier Part Number 1: 963-EYSHCNZWZ; Stock 1: 753; Pricing 1: 1=9.67, 10=8.75, 50=7.59, 100=7.36, 1000=6.12, 10000=6.12 (USD)
footprint EYSHCNZWZ (Bluetooth 5.0 Low Energy Module)
pins: 1 DCC, 2 DEC4, 3 GND (power), 4 VCC_NRF (power), 5 GND (power), 6 P0.04 / AIN2, 7 P0.05 / AIN3, 8 P0.06, 9 P0.07, 10 P0.08, 11 P0.09 / NFC1, 12 P0.10 / NFC2, 13 GND (power), 14 SWDIO (io), 15 SWCLK (in), 16 P0.13, 17 P0.14, 18 P0.17, 19 P0.18 / SWO, 20 P0.21 / ~{RESET }, 21 GND (power), 22 OUT_MOD, 23 OUT_ANT, 24 P0.22, 25 P0.23, 26 P0.24, 27 P0.25, 28 P0.26, 29 P0.27, 30 P0.28 / AIN4, 31 P0.29 / AIN5, 32 P0.30 / AIN6, 33 P0.31 / AIN7, 34 P0.02 / AIN0, 35 P0.03 / AIN1, 36 P0.11, 37 P0.12, 38 P0.15, 39 P0.16, 40 P0.19, 41 P0.20, 42 GND (power), 43 GND (power), 44 GND (power), 45 GND (power), 46 NC, 47 GND (power), 48 GND (power), 49 NC

## FSMSM
designator S?
SMD Tact Switch; Manufacturer: TE Connectivity Alcoswitch; Mechanical Life: 20000Cycles; Actuator Material: Polyamide; Voltage Rating (DC): 24V; Throw Configuration: SPST; Operating Force: 180gf; Contact Resistance: 100mR; Max Voltage Rating (DC): 12V; Current Rating: 50mA; Illumination Type: Non-Illuminated,Illuminated; Switch Travel: 0.25mm; Switch Function: Off-Mom; Actuator Type: Standard; Actuator Length: 0.042inch; item_number: E-SWI-00020-00; Supplier 1: Digi-Key; Supplier Part Number 1: 450-1140-ND; Manufacturer Part Number: FSMSM; Stock 1: 15505; Pricing 1: 1=0.27, 10=0.259, 25=0.25, 50=0.241, 100=0.2276, 250=0.2142, 500=0.2053, 1000=0.1562, 5000=0.1294 (USD); Mount: Surface Mount; Contact Material: Brass; Contact Plating: Silver; Min Operating Temperature: -35°C; Max Operating Temperature: 85°C; Termination: Gull Wing; Package Quantity: 1000; Packaging: Loose Piece; Electrical Life: 20000Cycles; Orientation: Straight; Contact Current Rating: 50mA; Type: Switch; REACH SVHC: Unknown; ELV: Compliant; Lead Free: Lead Free; ComponentLink1URL: https://datasheet.ciiva.com/5801/1651495-5801350.pdf; ComponentLink1Description: https://datasheet.ciiva.com/5801/1651495-5801350.pdf; ComponentLink2URL: https://datasheet.ciiva.com/14540/70156014-14540390.pdf; ComponentLink2Description: https://datasheet.ciiva.com/14540/70156014-14540390.pdf; ComponentLink3URL: https://datasheet.ciiva.com/5283/ng-cd-1437566-3-c1-116271-5283400.pdf; ComponentLink3Description: https://datasheet.ciiva.com/5283/ng-cd-1437566-3-c1-116271-5283400.pdf; ComponentLink4URL: https://datasheet.ciiva.com/2899/fsmseries-2899676.pdf; ComponentLink4Description: https://datasheet.ciiva.com/2899/fsmseries-2899676.pdf
footprint FSMSM (SPST Tactile Switch)
pins: 1, 2 1

## FT230XQ
designator U?
USB to UART Bridge; Manufacturer: FTDI; Manufacturer Part Number: FT230XQ-R; Data Rate: 12 Mb/s; Speed: Full Speed; Interface Type: UART, USB; Operating Supply Current: 6.5 mA to 8.3 mA; Operating Supply Voltage: 2.97 V to 5.5 V; Supply Voltage - Max: 5.5 V; Supply Voltage - Min: 2.97 V; item_number: E-ICS-00053-00; Supplier 1: Mouser; RoHS: RoHS Compliant; Category: USB Interface IC; Stock 1: 86769; Pricing 1: 1=2.04, 25=1.97, 100=1.90, 250=1.71, 500=1.54, 1000=1.46, 2500=1.38, 5000=1.38 (USD); Package / Case: QFN-16; Packaging: Cut Tape; Product: USB Bridge Controllers; Series: FT230; Type: Bridge, USB to UART; Brand: FTDI; Mounting Style: SMD/SMT; Maximum Operating Temperature: + 85 C; Minimum Operating Temperature: - 40 C; Moisture Sensitive: Yes; Standard: USB 2.0; Standard Pack Qty: 5000; Tradename: X-CHIP; RoHS - Mouser: Y; Minimum Order Quantity: 1; Reeling: True; ComponentLink1URL: http://www.mouser.com/ds/2/163/DS_FT230X-5395.pdf; ComponentLink1Description: http://www.mouser.com/ds/2/163/DS_FT230X-5395.pdf; Supplier Part Number 1: 895-FT230XQ-R
footprint VQFN65P400X400X90-16N (VQFN, 16-Leads, Body 4.0x4.0mm (max), Pitch 0.65mm, IPC Medium Density)
pins: 1 VCCIO (power), 2 RXD (io), 3 GND (power), 4 ~{CTS} (io), 5 CBUS2 (io), 6 USBDP, 7 USBDM, 8 3V3OUT (power), 9 ~{RESET} (in), 10 VCC (power), 11 CBUS1 (io), 12 CBUS0 (io), 13 GND (power), 14 CBUS3 (io), 15 TXD (io), 16 ~{RTS} (io), 17 GND (power)

## HDR-1x18
designator J?
item_number: M-CON-00058-00
footprint HDR-1X18 (Machine Pin Vertical Male Header 18 pins)
pins: 1, 2, 3, 4, 5, 6, 7, 8, 9, 10, 11, 12, 13, 14, 15, 16, 17, 18

## LED_0603
designator D?, comment Orange  (value not drawn)
LED_0603; Manufacturer: Vishay Lite-On; Manufacturer Part Number: LTST-C190KAKT; Colour: Red,Orange; Lens Colour: Colorless; Forward Voltage: 2V; Test Current: 20mA; Forward Current: 30mA; Wavelength: 621nm; Luminous Intensity: 54mcd; Lens Style: Flat,Diffused,Colorless,Rectangular; Viewing Angle: 130°; Dominant Wavelength: 615nm; Lens Transparency: Clear; Number of Elements: 1; Power Dissipation: 75mW; Reverse Voltage: 5V; item_number: E-LED-00009-00; Supplier 1: Digi-Key; Supplier Part Number 1: 160-1433-1-ND; Stock 1: 60967; Pricing 1: 1=0.41, 10=0.296, 25=0.2268, 100=0.148, 250=0.1085, 500=0.0921, 1000=0.0757 (USD); Mount: Surface Mount; Case/Package: 0603; Number of Pins: 2; Case Code (Metric): 1608; Case Code (Imperial): 0603; Min Operating Temperature: -55°C; Max Operating Temperature: 85°C; Packaging: Tape and Reel; Package Quantity: 1; Illumination Colour: Orange; Number of LEDs: 1; Orientation: Top View; Length: 1.6mm; Height: 0.8mm; Width: 0.8mm; Depth: 1.6mm; Radiation Hardening: No; Lead Free: Lead Free; ComponentLink1URL: https://datasheet.ciiva.com/24120/ltst-c190kakt-267511-24120611.pdf; ComponentLink1Description: https://datasheet.ciiva.com/24120/ltst-c190kakt-267511-24120611.pdf; ComponentLink2URL: https://datasheet.ciiva.com/26937/getdatasheetpartid-257177-26937956.pdf; ComponentLink2Description: https://datasheet.ciiva.com/26937/getdatasheetpartid-257177-26937956.pdf; ComponentLink3URL: https://datasheet.ciiva.com/2110/ltst-c150-170-190kxkt-2110261.pdf; ComponentLink3Description: https://datasheet.ciiva.com/2110/ltst-c150-170-190kxkt-2110261.pdf; ComponentLink4URL: https://datasheet.ciiva.com/2110/ltst-c150-170-190kxkt-2110262.pdf; ComponentLink4Description: https://datasheet.ciiva.com/2110/ltst-c150-170-190kxkt-2110262.pdf; ComponentLink5URL: https://datasheet.ciiva.com/2110/ltst-c150-170-190kxkt-2110263.pdf; ComponentLink5Description: https://datasheet.ciiva.com/2110/ltst-c150-170-190kxkt-2110263.pdf
footprint 0603LED (0603 LED)
pins: A, K

## logo-afero
designator LOGO?  (value not drawn)
item_number: =item_name
footprint afero-logo-356x125
text: afero logo

## logo-modulo1b
designator LOGO?  (value not drawn)
item_number: =item_name
footprint modulo1b-logo
text: modulo1b logo

## MODULE-MT7697F
designator U?  (value not drawn)
footprint MODULE40P-1.27-22X18MM
pins: 1 GND, 2 GPIO00, 3 GPIO01, 4 GPIO02, 5 GPIO03, 6 GPIO04, 7 GPIO05, 8 GPIO06, 9 GPIO07, 10 GPIO24, 11 GPIO25, 12 GPIO26, 13 RTC_3V3, 14 GND, 15 3V3, 16 GND, 17 PMU_EN_RTC, 18 GPIO32, 19 GPIO31, 20 GPIO27, 21 GPIO30, 22 GPIO28, 23 GPIO29, 24 PMU_EN_WF, 25 GND, 26 3V3, 27 GPIO60, 28 GPIO59, 29 GPIO58, 30 GPIO57, 31 GPIO39, 32 GPIO38, 33 GND, 34 GPIO37, 35 GPIO36, 36 SYS_RST_N, 37 GPIO34, 38 GPIO33, 39 GPIO35, 40 GND

## modulo-1B PCB
designator *
item_number: E-PCB-00027-00

## Nch_MOSFET_2N7002
designator Q?, comment 2N7002
MOSFET N-CH 60V 115mA SOT23; Manufacturer: On Semiconductor; Commodity: FET; Mounting: *; Manufacturer Part Number: 2N7002; Replace: *; Value: 2N7002
footprint SOT23 (SOT32)
footprint SC70-3 (SC70, 3-Leads, Body 2.00x2.10mm, Pitch 0.65mm, IPC Medium Density)
footprint SOT-323
pins: 1 G, 2 S, 3 D

## Nch_MOSFET_BSH105
designator Q?, comment BSH105
MOSFET N-CH 20V 1.05A SOT23; Manufacturer: Nexperia; Commodity: FET; Mounting: *; Manufacturer Part Number: BSH105; Replace: *; Value: BSH105
footprint SOT23 (SOT32)
footprint SC70-3 (SC70, 3-Leads, Body 2.00x2.10mm, Pitch 0.65mm, IPC Medium Density)
footprint SOT-323
pins: 1 G, 2 S, 3 D

## S-1313A33-M5T1U3
designator U?
Low Current Consumption LDO; Manufacturer: Seiko; Manufacturer Part Number: S-1313A33-M5T1U3; Output Voltage: 3.3V; Dropout Voltage: 160mV; Output Voltage Accuracy: 1%; item_number: E-ICS-00092-00; Supplier 1: Digi-Key; Supplier Part Number 1: S-1313A33-M5T1U3-ND; Stock 1: 0; Case/Package: SOT-23-5
footprint SOT95P275X130-5N (SOT23, 5-Leads, Body 2.90x2.75mm, Pitch 0.95mm, IPC Medium Density)
pins: 1 VIN (power), 2 VSS (power), 3 ON/~{OFF} (in), 4 NC, 5 VOUT (power)